# Altium schematic symbol library 691 701 530 0xx B.SchLib: 11 symbols
Pins are listed as number, name and electrical type; pins without a type are passive.

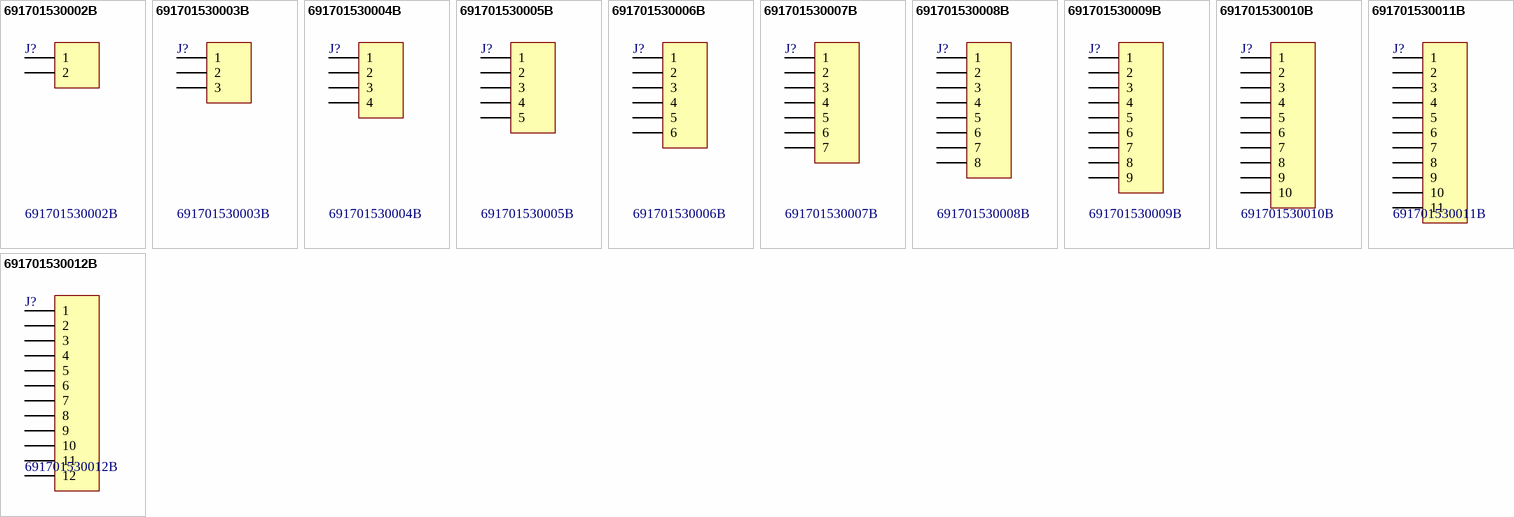
[diagram p0: symbols 691701530002B to 691701530012B]

## 691701530002B
designator J?
WR-TBL Terminal Blocks Serie 7015 B - 5.08 mm THR Type; Manufacturer: Würth Elektronik eiSos GmbH; ComponentLink1 Description: Manufacturer; ComponentLink2 Description: Datasheet; NoPins: 02; Created Date: 31 March 2014; partNo: 691701530002B; ComponentLink1URL: http://www.we-online.com; ComponentLink2URL: http://katalog.we-online.de/em/datasheet/6917015300xxB.pdf; Created by: Karrer Zheng; Value: 691701530002B
footprint 691701530002B (THR - 5,08mm - PCB Horizontal Open - 02p)
pins: 1, 2

## 691701530003B
designator J?
WR-TBL Terminal Blocks Serie 7015 B - 5.08 mm THR Type; Manufacturer: Würth Elektronik eiSos GmbH; ComponentLink1 Description: Manufacturer; ComponentLink2 Description: Datasheet; NoPins: 03; Created Date: 31 March 2014; partNo: 691701530003B; ComponentLink1URL: http://www.we-online.com; ComponentLink2URL: http://katalog.we-online.de/em/datasheet/6917015300xxB.pdf; Created by: Karrer Zheng; Value: 691701530003B
footprint 691701530003B (THR - 5,08mm - PCB Horizontal Open - 03p)
pins: 1, 2, 3

## 691701530004B
designator J?
WR-TBL Terminal Blocks Serie 7015 B - 5.08 mm THR Type; Manufacturer: Würth Elektronik eiSos GmbH; ComponentLink1 Description: Manufacturer; ComponentLink2 Description: Datasheet; NoPins: 04; Created Date: 31 March 2014; partNo: 691701530004B; ComponentLink1URL: http://www.we-online.com; ComponentLink2URL: http://katalog.we-online.de/em/datasheet/6917015300xxB.pdf; Created by: Karrer Zheng; Value: 691701530004B
footprint 691701530004B (THR - 5,08mm - PCB Horizontal Open - 04p)
pins: 1, 2, 3, 4

## 691701530005B
designator J?
WR-TBL Terminal Blocks Serie 7015 B - 5.08 mm THR Type; Manufacturer: Würth Elektronik eiSos GmbH; ComponentLink1 Description: Manufacturer; ComponentLink2 Description: Datasheet; NoPins: 05; Created Date: 31 March 2014; partNo: 691701530005B; ComponentLink1URL: http://www.we-online.com; ComponentLink2URL: http://katalog.we-online.de/em/datasheet/6917015300xxB.pdf; Created by: Karrer Zheng; Value: 691701530005B
footprint 691701530005B (THR - 5,08mm - PCB Horizontal Open - 05p)
pins: 1, 2, 3, 4, 5

## 691701530006B
designator J?
WR-TBL Terminal Blocks Serie 7015 B - 5.08 mm THR Type; Manufacturer: Würth Elektronik eiSos GmbH; ComponentLink1 Description: Manufacturer; ComponentLink2 Description: Datasheet; NoPins: 06; Created Date: 31 March 2014; partNo: 691701530006B; ComponentLink1URL: http://www.we-online.com; ComponentLink2URL: http://katalog.we-online.de/em/datasheet/6917015300xxB.pdf; Created by: Karrer Zheng; Value: 691701530006B
footprint 691701530006B (THR - 5,08mm - PCB Horizontal Open - 06p)
pins: 1, 2, 3, 4, 5, 6

## 691701530007B
designator J?
WR-TBL Terminal Blocks Serie 7015 B - 5.08 mm THR Type; Manufacturer: Würth Elektronik eiSos GmbH; ComponentLink1 Description: Manufacturer; ComponentLink2 Description: Datasheet; NoPins: 07; Created Date: 31 March 2014; partNo: 691701530007B; ComponentLink1URL: http://www.we-online.com; ComponentLink2URL: http://katalog.we-online.de/em/datasheet/6917015300xxB.pdf; Created by: Karrer Zheng; Value: 691701530007B
footprint 691701530007B (THR - 5,08mm - PCB Horizontal Open - 07p)
pins: 1, 2, 3, 4, 5, 6, 7

## 691701530008B
designator J?
WR-TBL Terminal Blocks Serie 7015 B - 5.08 mm THR Type; Manufacturer: Würth Elektronik eiSos GmbH; ComponentLink1 Description: Manufacturer; ComponentLink2 Description: Datasheet; NoPins: 08; Created Date: 31 March 2014; partNo: 691701530008B; ComponentLink1URL: http://www.we-online.com; ComponentLink2URL: http://katalog.we-online.de/em/datasheet/6917015300xxB.pdf; Created by: Karrer Zheng; Value: 691701530008B
footprint 691701530008B (THR - 5,08mm - PCB Horizontal Open - 08p)
pins: 1, 2, 3, 4, 5, 6, 7, 8

## 691701530009B
designator J?
WR-TBL Terminal Blocks Serie 7015 B - 5.08 mm THR Type; Manufacturer: Würth Elektronik eiSos GmbH; ComponentLink1 Description: Manufacturer; ComponentLink2 Description: Datasheet; NoPins: 09; Created Date: 31 March 2014; partNo: 691701530009B; ComponentLink1URL: http://www.we-online.com; ComponentLink2URL: http://katalog.we-online.de/em/datasheet/6917015300xxB.pdf; Created by: Karrer Zheng; Value: 691701530009B
footprint 691701530009B (THR - 5,08mm - PCB Horizontal Open - 09p)
pins: 1, 2, 3, 4, 5, 6, 7, 8, 9

## 691701530010B
designator J?
WR-TBL Terminal Blocks Serie 7015 B - 5.08 mm THR Type; Manufacturer: Würth Elektronik eiSos GmbH; ComponentLink1 Description: Manufacturer; ComponentLink2 Description: Datasheet; NoPins: 10; Created Date: 31 March 2014; partNo: 691701530010B; ComponentLink1URL: http://www.we-online.com; ComponentLink2URL: http://katalog.we-online.de/em/datasheet/6917015300xxB.pdf; Created by: Karrer Zheng; Value: 691701530010B
footprint 691701530010B (THR - 5,08mm - PCB Horizontal Open - 10p)
pins: 1, 2, 3, 4, 5, 6, 7, 8, 9, 10

## 691701530011B
designator J?
WR-TBL Terminal Blocks Serie 7015 B - 5.08 mm THR Type; Manufacturer: Würth Elektronik eiSos GmbH; ComponentLink1 Description: Manufacturer; ComponentLink2 Description: Datasheet; NoPins: 11; Created Date: 31 March 2014; partNo: 691701530011B; ComponentLink1URL: http://www.we-online.com; ComponentLink2URL: http://katalog.we-online.de/em/datasheet/6917015300xxB.pdf; Created by: Karrer Zheng; Value: 691701530011B
footprint 691701530011B (THR - 5,08mm - PCB Horizontal Open - 11p)
pins: 1, 2, 3, 4, 5, 6, 7, 8, 9, 10, 11

## 691701530012B
designator J?
WR-TBL Terminal Blocks Serie 7015 B - 5.08 mm THR Type; Manufacturer: Würth Elektronik eiSos GmbH; ComponentLink1 Description: Manufacturer; ComponentLink2 Description: Datasheet; NoPins: 12; Created Date: 31 March 2014; partNo: 691701530012B; ComponentLink1URL: http://www.we-online.com; ComponentLink2URL: http://katalog.we-online.de/em/datasheet/6917015300xxB.pdf; Created by: Karrer Zheng; Value: 691701530012B
footprint 691701530012B (THR - 5,08mm - PCB Horizontal Open - 12p)
pins: 1, 2, 3, 4, 5, 6, 7, 8, 9, 10, 11, 12